# EAGLE library part BA3884 (library ic-rohm)
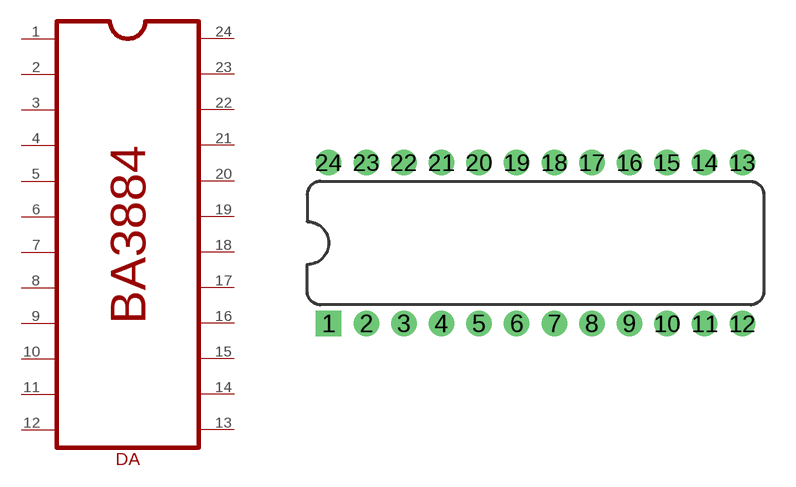
[diagram p0: symbol with the pads of SDIP-24; footprint SDIP-24]

Designator prefix DA

## BA3884S  [SDIP-24]
1  1
2  2
3  3
4  4
5  5
6  6
7  7
8  8
9  9
10  10
11  11
12  12
13  13
14  14
15  15
16  16
17  17
18  18
19  19
20  20
21  21
22  22
23  23
24  24

## Footprint SDIP-24 (pad centres in mm)
drill 0.7 square: 1 -9.779,-3.81
drill 0.7: 2 -8.001,-3.81; 3 -6.223,-3.81; 4 -4.445,-3.81; 5 -2.667,-3.81; 6 -0.889,-3.81; 7 0.889,-3.81; 8 2.667,-3.81; 9 4.445,-3.81; 10 6.223,-3.81; 11 8.001,-3.81; 12 9.779,-3.81; 13 9.779,3.81; 14 8.001,3.81; 15 6.223,3.81; 16 4.445,3.81; 17 2.667,3.81; 18 0.889,3.81; 19 -0.889,3.81; 20 -2.667,3.81; 21 -4.445,3.81; 22 -6.223,3.81; 23 -8.001,3.81; 24 -9.779,3.81